# Altium footprint library WURTH_890334023023.PcbLib: 1 footprints
Each footprint in its own frame and in the unit in brackets; x right, y up, seen from the top. Pads: shape width x height; smd on the part's side, far side on the other; paste and mask are expansions set on the pad; w line width, h text height; cw(c..) or ccw(c..) is an arc to the next point about the centre after c.
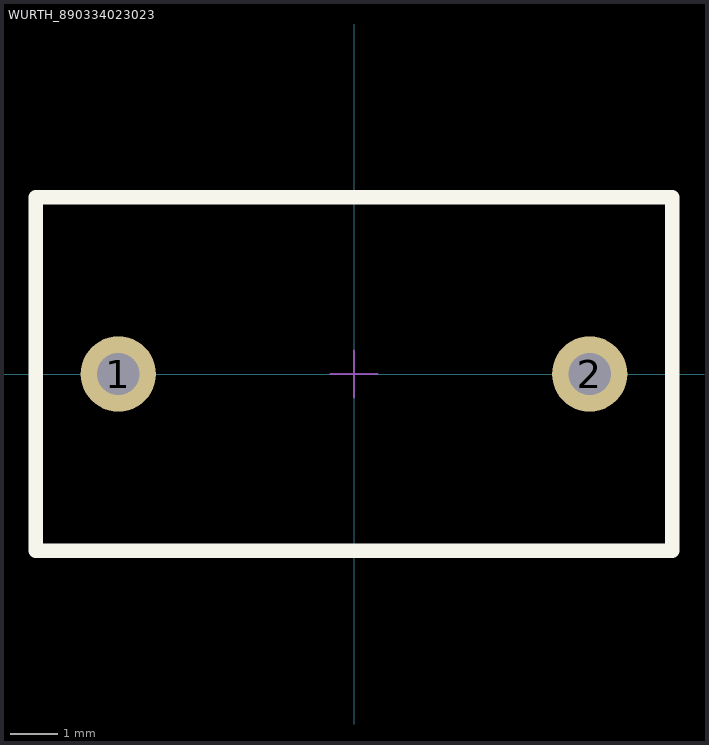
[diagram p0: the footprint, top view; thin cyan lines are the x and y axes]

## WURTH_890334023023 [mm] "WURTH_890334023023"
height 13.5
pads (2):
  round 1.6 hole 0.9 mask+0.05: 1(-5,0) 2(5,0)
Top Overlay:
  lines w0.3: -6.75,-3.75 -6.75,3.75 6.75,3.75 6.75,-3.75 -6.75,-3.75
Mechanical 13:
  lines w0.1: -6.75,-3.75 6.75,-3.75 6.75,3.75 -6.75,3.75 -6.75,-3.75
Mechanical 15:
  lines w0.05: -0.5,0 0.5,0 ; 0,-0.5 0,0.5
3D body "WURTH_890334023023.step": height 13.51, standoff -5.08, extent -6.756,-3.746 6.756,3.746